# Altium integrated library NODEMCU-32S.IntLib: 1 symbol
Pins are listed as number, name and electrical type; pins without a type are passive.

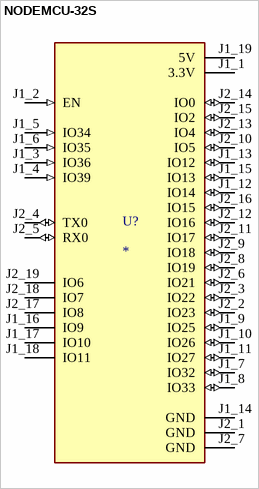
[diagram p0: symbol NODEMCU-32S]

## NODEMCU-32S
designator U?
WIFI MODULE V1; MF: AI-Thinker; MP: NODEMCU-32S; SnapEDA_Link: https://www.snapeda.com/parts/NODEMCU-32S/AI-Thinker/view-part/?ref=snap; Package: Package; Value: *; Check_prices: https://www.snapeda.com/parts/NODEMCU-32S/AI-Thinker/view-part/?ref=eda
footprint MODULE_NODEMCU-32S
pins: J1_1 3.3V (power), J1_2 EN (in), J1_3 IO36 (in), J1_4 IO39 (in), J1_5 IO34 (in), J1_6 IO35 (in), J1_7 IO32 (io), J1_8 IO33 (io), J1_9 IO25 (io), J1_10 IO26 (io), J1_11 IO27 (io), J1_12 IO14 (io), J1_13 IO12 (io), J1_14 GND (power), J1_15 IO13 (io), J1_16 IO9, J1_17 IO10, J1_18 IO11, J1_19 5V (power), J2_1 GND (power), J2_2 IO23 (io), J2_3 IO22 (io), J2_4 TX0 (io), J2_5 RX0 (io), J2_6 IO21 (io), J2_7 GND (power), J2_8 IO19 (io), J2_9 IO18 (io), J2_10 IO5 (io), J2_11 IO17 (io), J2_12 IO16 (io), J2_13 IO4 (io), J2_14 IO0 (io), J2_15 IO2 (io), J2_16 IO15 (io), J2_17 IO8, J2_18 IO7, J2_19 IO6